# EAGLE library part HC908MR32 (library MOTOROLA)
68HC908MR32: QFP-Version oder "MiniSocket": Sockelvariante by Detotronic, verwendet bei Didactopus
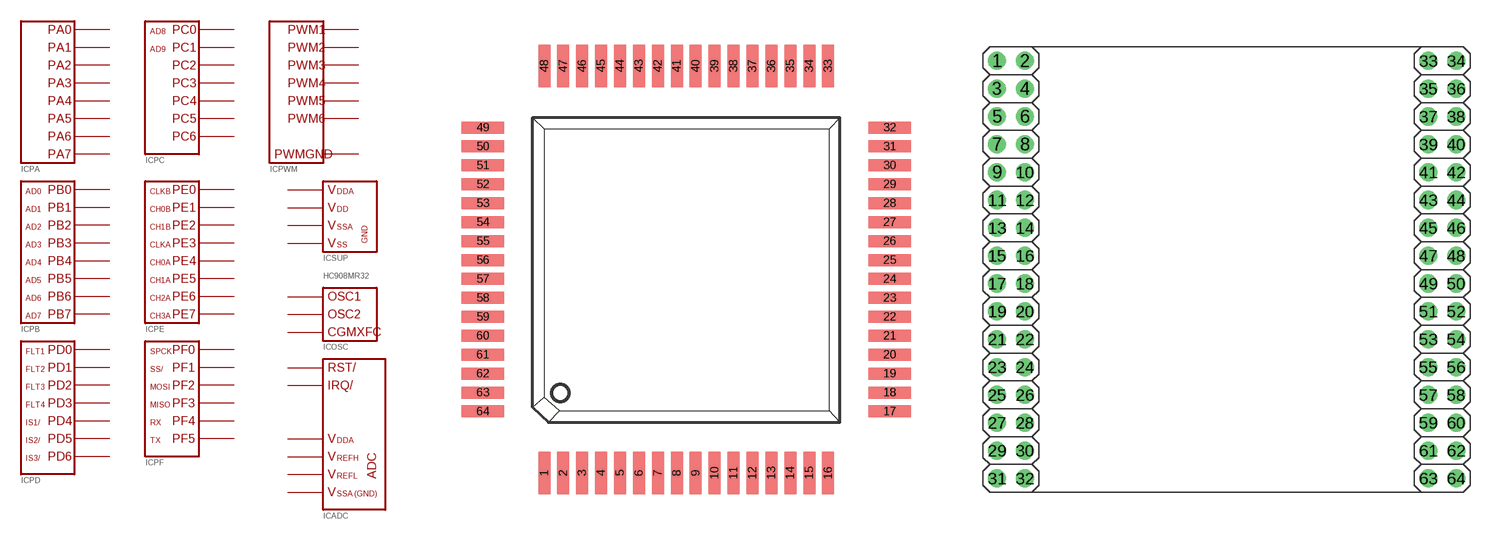
[diagram p54: symbol with the pads of QFP64; footprints QFP64, PINHEAD2X16]

Designator prefix IC; gates PA=HC908PA PB=HC908PB PD=HC908PD PC=HC980PC PE=HC908PE PF=HC908PF PWM=HC908PWM SUP=HC908SUP OSC=HC908OSC ADC=HC908ADC

## HC908MR32  [QFP64]
1  PB:PB2
2  PB:PB3
3  PB:PB4
4  PB:PB5
5  PB:PB6
6  PB:PB7
7  PC:PC0
8  PC:PC1
9  ADC:VDDA  sup
10  ADC:VSSA  sup
11  ADC:VREFL  in
12  ADC:VREFH  in
13  PC:PC2
14  PC:PC3
15  PC:PC4
16  PC:PC5
17  PC:PC6
18  PD:PD0  in
19  PD:PD1  in
20  PD:PD2  in
21  PD:PD3  in
22  PD:PD4  in
23  PD:PD5  in
24  PD:PD6  in
25  PWM:PWM1  in
26  PWM:PWM2  in
27  PWM:PWM3  in
28  PWM:PWM4  in
29  PWM:PWMGND  in
30  PWM:PWM5  in
31  PWM:PWM6  in
32  PE:PE0
33  PE:PE1
34  PE:PE2
35  PE:PE3
36  PE:PE4
37  PE:PE5
38  PE:PE6
39  PE:PE7
40  SUP:VDD  sup
41  SUP:VSS  sup
42  PF:PF0  in
43  PF:PF1  in
44  PF:PF2  in
45  PF:PF3  in
46  PF:PF4  in
47  PF:PF5  in
48  ADC:IRQ/  in
49  ADC:RST/
50  SUP:VDDA  sup
51  OSC:CGM  in
52  OSC:OSC1  in
53  OSC:OSC2  in
54  SUP:VSSA  sup
55  PA:PA0
56  PA:PA1
57  PA:PA2
58  PA:PA3
59  PA:PA4
60  PA:PA5
61  PA:PA6
62  PA:PA7
63  PB:PB0
64  PB:PB1

## HC908MR32MS  [PINHEAD2X16]
1  OSC:OSC1  in
2  PA:PA0
3  OSC:OSC2  in
4  PA:PA1
5  OSC:CGM  in
6  PA:PA2
7  ADC:VDDA  sup
8  PA:PA3
9  ADC:VREFH  in
10  PA:PA4
11  ADC:VREFL  in
12  PA:PA5
13  ADC:VSSA  sup
14  PA:PA6
15  SUP:VDDA  sup
16  PA:PA7
17  SUP:VSSA  sup
18  PB:PB0
19  PC:PC6
20  PB:PB1
21  PC:PC5
22  PB:PB2
23  PC:PC4
24  PB:PB3
25  PC:PC3
26  PB:PB4
27  PC:PC2
28  PB:PB5
29  PC:PC1
30  PB:PB6
31  PC:PC0
32  PB:PB7
33  PE:PE0
34  SUP:VDD  sup
35  PE:PE1
36  SUP:VSS  sup
37  PE:PE2
38  PWM:PWMGND  in
39  PE:PE3
40  PWM:PWM6  in
41  PE:PE4
42  PWM:PWM5  in
43  PE:PE5
44  PWM:PWM4  in
45  PE:PE6
46  PWM:PWM3  in
47  PE:PE7
48  PWM:PWM2  in
49  PF:PF0  in
50  PWM:PWM1  in
51  PF:PF1  in
52  PD:PD6  in
53  PF:PF2  in
54  PD:PD5  in
55  PF:PF3  in
56  PD:PD4  in
57  PF:PF4  in
58  PD:PD3  in
59  PF:PF5  in
60  PD:PD2  in
61  ADC:IRQ/  in
62  PD:PD1  in
63  ADC:RST/
64  PD:PD0  in

## Footprint QFP64 (pad centres in mm)
smd 0.508 x 1.778: 1 -6,-8.6; 2 -5.2,-8.6; 3 -4.4,-8.6; 4 -3.6,-8.6; 5 -2.8,-8.6; 6 -2,-8.6; 7 -1.2,-8.6; 8 -0.4,-8.6; 9 0.4,-8.6; 10 1.2,-8.6; 11 2,-8.6; 12 2.8,-8.6; 13 3.6,-8.6; 14 4.4,-8.6; 15 5.2,-8.6; 16 6,-8.6; 33 6,8.6; 34 5.2,8.6; 35 4.4,8.6; 36 3.6,8.6; 37 2.8,8.6; 38 2,8.6; 39 1.2,8.6; 40 0.4,8.6; 41 -0.4,8.6; 42 -1.2,8.6; 43 -2,8.6; 44 -2.8,8.6; 45 -3.6,8.6; 46 -4.4,8.6; 47 -5.2,8.6; 48 -6,8.6
smd 1.778 x 0.508: 17 8.6,-6; 18 8.6,-5.2; 19 8.6,-4.4; 20 8.6,-3.6; 21 8.6,-2.8; 22 8.6,-2; 23 8.6,-1.2; 24 8.6,-0.4; 25 8.6,0.4; 26 8.6,1.2; 27 8.6,2; 28 8.6,2.8; 29 8.6,3.6; 30 8.6,4.4; 31 8.6,5.2; 32 8.6,6; 49 -8.6,6; 50 -8.6,5.2; 51 -8.6,4.4; 52 -8.6,3.6; 53 -8.6,2.8; 54 -8.6,2; 55 -8.6,1.2; 56 -8.6,0.4; 57 -8.6,-0.4; 58 -8.6,-1.2; 59 -8.6,-2; 60 -8.6,-2.8; 61 -8.6,-3.6; 62 -8.6,-4.4; 63 -8.6,-5.2; 64 -8.6,-6

## Footprint PINHEAD2X16 (pad centres in mm)
Pinhead-Leiste, 2x16 Pin, doppelt vorhanden. Gebraucht für MiniSocket 68HC908 -> Didactopus
drill 1.016 pad 1.651 round: 1 -21.59,17.78; 2 -19.05,17.78; 3 -21.59,15.24; 4 -19.05,15.24; 5 -21.59,12.7; 6 -19.05,12.7; 7 -21.59,10.16; 8 -19.05,10.16; 9 -21.59,7.62; 10 -19.05,7.62; 11 -21.59,5.08; 12 -19.05,5.08; 13 -21.59,2.54; 14 -19.05,2.54; 15 -21.59,0; 16 -19.05,0; 17 -21.59,-2.54; 18 -19.05,-2.54; 19 -21.59,-5.08; 20 -19.05,-5.08; 21 -21.59,-7.62; 22 -19.05,-7.62; 23 -21.59,-10.16; 24 -19.05,-10.16; 25 -21.59,-12.7; 26 -19.05,-12.7; 27 -21.59,-15.24; 28 -19.05,-15.24; 29 -21.59,-17.78; 30 -19.05,-17.78; 31 -21.59,-20.32; 32 -19.05,-20.32; 33 17.78,17.78; 34 20.32,17.78; 35 17.78,15.24; 36 20.32,15.24; 37 17.78,12.7; 38 20.32,12.7; 39 17.78,10.16; 40 20.32,10.16; 41 17.78,7.62; 42 20.32,7.62; 43 17.78,5.08; 44 20.32,5.08; 45 17.78,2.54; 46 20.32,2.54; 47 17.78,0; 48 20.32,0; 49 17.78,-2.54; 50 20.32,-2.54; 51 17.78,-5.08; 52 20.32,-5.08; 53 17.78,-7.62; 54 20.32,-7.62; 55 17.78,-10.16; 56 20.32,-10.16; 57 17.78,-12.7; 58 20.32,-12.7; 59 17.78,-15.24; 60 20.32,-15.24; 61 17.78,-17.78; 62 20.32,-17.78; 63 17.78,-20.32; 64 20.32,-20.32